# Altium schematic symbol library WE-PD.SchLib: 360 symbols (part 4 of 7)
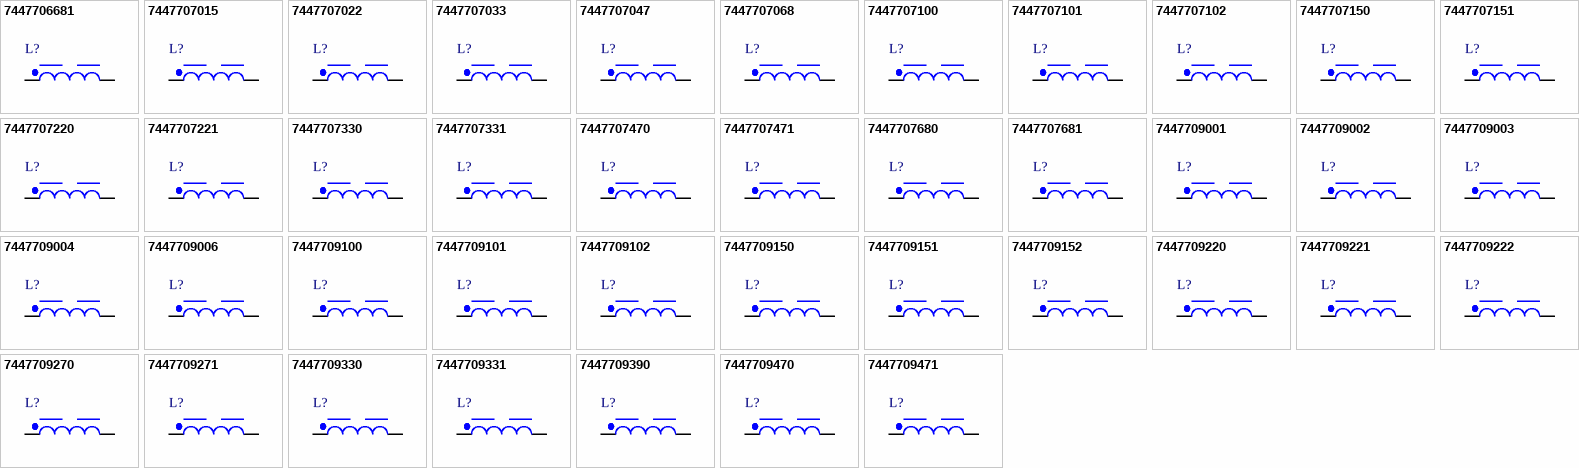
[diagram p11: symbols 7447706681 to 7447709471]

## 7447707068
designator L?, comment 6.8 μH, 6.8 A  (value not drawn)
WE-PD SMT Power Inductor, size 1280P, 6.8 μH, 6.8 A, 14 mΩ; Manufacturer Part Number: 7447707068; Manufacturer: Wurth Elektronik; DC Resistance: 11.8 mΩ; DC Resistance Max: 14 mΩ; Inductance: 6.8 μH; Rated Current: 6.8 A; Saturation Current: 13 A; Self Resonant Frequency: 19.1 MHz; Type: Performance; Category: Power Inductors; Match Code: WE-PD; ComponentLink1Description: Website Link; ComponentLink1URL: https://www.we-online.com/redexpert/article/7447707068?ad; ComponentLink2Description: Datasheet Link; ComponentLink2URL: https://www.we-online.com/redexpert/spec/7447707068?ad; Mount: Surface Mount; Min Operating Temperature: -40 °C; Max Operating Temperature: 150 °C; Packaging: Tape and Reel; Case/Size Code: 1280P; Length: 12 mm; Width: 12 mm; Height: 8 mm
footprint WE-PD_1280P
simulation model 1280_7447707068_6.8u
pins: 1, 2

## 7447707100
designator L?, comment 10 μH, 5.6 A  (value not drawn)
WE-PD SMT Power Inductor, size 1280P, 10 μH, 5.6 A, 21 mΩ; Manufacturer Part Number: 7447707100; Manufacturer: Wurth Elektronik; DC Resistance: 18 mΩ; DC Resistance Max: 21 mΩ; Inductance: 10 μH; Rated Current: 5.6 A; Saturation Current: 11 A; Self Resonant Frequency: 15.1 MHz; Type: Performance; Category: Power Inductors; Match Code: WE-PD; ComponentLink1Description: Website Link; ComponentLink1URL: https://www.we-online.com/redexpert/article/7447707100?ad; ComponentLink2Description: Datasheet Link; ComponentLink2URL: https://www.we-online.com/redexpert/spec/7447707100?ad; Mount: Surface Mount; Min Operating Temperature: -40 °C; Max Operating Temperature: 150 °C; Packaging: Tape and Reel; Case/Size Code: 1280P; Length: 12 mm; Width: 12 mm; Height: 8 mm
footprint WE-PD_1280P
simulation model 1280_7447707100_10u
pins: 1, 2

## 7447707101
designator L?, comment 100 μH, 2.1 A  (value not drawn)
WE-PD SMT Power Inductor, size 1280P, 100 μH, 2.1 A, 120 mΩ; Manufacturer Part Number: 7447707101; Manufacturer: Wurth Elektronik; DC Resistance: 105 mΩ; DC Resistance Max: 120 mΩ; Inductance: 100 μH; Rated Current: 2.1 A; Saturation Current: 3.5 A; Self Resonant Frequency: 4.3 MHz; Type: Performance; Category: Power Inductors; Match Code: WE-PD; ComponentLink1Description: Website Link; ComponentLink1URL: https://www.we-online.com/redexpert/article/7447707101?ad; ComponentLink2Description: Datasheet Link; ComponentLink2URL: https://www.we-online.com/redexpert/spec/7447707101?ad; Mount: Surface Mount; Min Operating Temperature: -40 °C; Max Operating Temperature: 150 °C; Packaging: Tape and Reel; Case/Size Code: 1280P; Length: 12 mm; Width: 12 mm; Height: 8 mm
footprint WE-PD_1280P
simulation model 1280_7447707101_100u
pins: 1, 2

## 7447707102
designator L?, comment 1000 μH, 0.66 A  (value not drawn)
WE-PD SMT Power Inductor, size 1280P, 1000 μH, 0.66 A, 1090 mΩ; Manufacturer Part Number: 7447707102; Manufacturer: Wurth Elektronik; DC Resistance: 985 mΩ; DC Resistance Max: 1090 mΩ; Inductance: 1000 μH; Rated Current: 0.66 A; Saturation Current: 1.1 A; Self Resonant Frequency: 1.2 MHz; Type: Performance; Category: Power Inductors; Match Code: WE-PD; ComponentLink1Description: Website Link; ComponentLink1URL: https://www.we-online.com/redexpert/article/7447707102?ad; ComponentLink2Description: Datasheet Link; ComponentLink2URL: https://www.we-online.com/redexpert/spec/7447707102?ad; Mount: Surface Mount; Min Operating Temperature: -40 °C; Max Operating Temperature: 150 °C; Packaging: Tape and Reel; Case/Size Code: 1280P; Length: 12 mm; Width: 12 mm; Height: 8 mm
footprint WE-PD_1280P
simulation model 1280_7447707102_1000u
pins: 1, 2

## 7447707150
designator L?, comment 15 μH, 4.7 A  (value not drawn)
WE-PD SMT Power Inductor, size 1280P, 15 μH, 4.7 A, 26.5 mΩ; Manufacturer Part Number: 7447707150; Manufacturer: Wurth Elektronik; DC Resistance: 23 mΩ; DC Resistance Max: 26.5 mΩ; Inductance: 15 μH; Rated Current: 4.7 A; Saturation Current: 9 A; Self Resonant Frequency: 13.2 MHz; Type: Performance; Category: Power Inductors; Match Code: WE-PD; ComponentLink1Description: Website Link; ComponentLink1URL: https://www.we-online.com/redexpert/article/7447707150?ad; ComponentLink2Description: Datasheet Link; ComponentLink2URL: https://www.we-online.com/redexpert/spec/7447707150?ad; Mount: Surface Mount; Min Operating Temperature: -40 °C; Max Operating Temperature: 150 °C; Packaging: Tape and Reel; Case/Size Code: 1280P; Length: 12 mm; Width: 12 mm; Height: 8 mm
footprint WE-PD_1280P
simulation model 1280_7447707150_15u
pins: 1, 2

## 7447707151
designator L?, comment 150 μH, 1.65 A  (value not drawn)
WE-PD SMT Power Inductor, size 1280P, 150 μH, 1.65 A, 190 mΩ; Manufacturer Part Number: 7447707151; Manufacturer: Wurth Elektronik; DC Resistance: 165 mΩ; DC Resistance Max: 190 mΩ; Inductance: 150 μH; Rated Current: 1.65 A; Saturation Current: 2.8 A; Self Resonant Frequency: 3.5 MHz; Type: Performance; Category: Power Inductors; Match Code: WE-PD; ComponentLink1Description: Website Link; ComponentLink1URL: https://www.we-online.com/redexpert/article/7447707151?ad; ComponentLink2Description: Datasheet Link; ComponentLink2URL: https://www.we-online.com/redexpert/spec/7447707151?ad; Mount: Surface Mount; Min Operating Temperature: -40 °C; Max Operating Temperature: 150 °C; Packaging: Tape and Reel; Case/Size Code: 1280P; Length: 12 mm; Width: 12 mm; Height: 8 mm
footprint WE-PD_1280P
simulation model 1280_7447707151_150u
pins: 1, 2

## 7447707220
designator L?, comment 22 μH, 4 A  (value not drawn)
WE-PD SMT Power Inductor, size 1280P, 22 μH, 4 A, 36 mΩ; Manufacturer Part Number: 7447707220; Manufacturer: Wurth Elektronik; DC Resistance: 31.5 mΩ; DC Resistance Max: 36 mΩ; Inductance: 22 μH; Rated Current: 4 A; Saturation Current: 7.4 A; Self Resonant Frequency: 10.2 MHz; Type: Performance; Category: Power Inductors; Match Code: WE-PD; ComponentLink1Description: Website Link; ComponentLink1URL: https://www.we-online.com/redexpert/article/7447707220?ad; ComponentLink2Description: Datasheet Link; ComponentLink2URL: https://www.we-online.com/redexpert/spec/7447707220?ad; Mount: Surface Mount; Min Operating Temperature: -40 °C; Max Operating Temperature: 150 °C; Packaging: Tape and Reel; Case/Size Code: 1280P; Length: 12 mm; Width: 12 mm; Height: 8 mm
footprint WE-PD_1280P
simulation model 1280_7447707220_22u
pins: 1, 2

## 7447707221
designator L?, comment 220 μH, 1.35 A  (value not drawn)
WE-PD SMT Power Inductor, size 1280P, 220 μH, 1.35 A, 265 mΩ; Manufacturer Part Number: 7447707221; Manufacturer: Wurth Elektronik; DC Resistance: 240 mΩ; DC Resistance Max: 265 mΩ; Inductance: 220 μH; Rated Current: 1.35 A; Saturation Current: 2.35 A; Self Resonant Frequency: 2.9 MHz; Type: Performance; Category: Power Inductors; Match Code: WE-PD; ComponentLink1Description: Website Link; ComponentLink1URL: https://www.we-online.com/redexpert/article/7447707221?ad; ComponentLink2Description: Datasheet Link; ComponentLink2URL: https://www.we-online.com/redexpert/spec/7447707221?ad; Mount: Surface Mount; Min Operating Temperature: -40 °C; Max Operating Temperature: 150 °C; Packaging: Tape and Reel; Case/Size Code: 1280P; Length: 12 mm; Width: 12 mm; Height: 8 mm
footprint WE-PD_1280P
simulation model 1280_7447707221_220u
pins: 1, 2

## 7447707330
designator L?, comment 33 μH, 3.15 A  (value not drawn)
WE-PD SMT Power Inductor, size 1280P, 33 μH, 3.15 A, 53 mΩ; Manufacturer Part Number: 7447707330; Manufacturer: Wurth Elektronik; DC Resistance: 46.5 mΩ; DC Resistance Max: 53 mΩ; Inductance: 33 μH; Rated Current: 3.15 A; Saturation Current: 6.1 A; Self Resonant Frequency: 8.3 MHz; Type: Performance; Category: Power Inductors; Match Code: WE-PD; ComponentLink1Description: Website Link; ComponentLink1URL: https://www.we-online.com/redexpert/article/7447707330?ad; ComponentLink2Description: Datasheet Link; ComponentLink2URL: https://www.we-online.com/redexpert/spec/7447707330?ad; Mount: Surface Mount; Min Operating Temperature: -40 °C; Max Operating Temperature: 150 °C; Packaging: Tape and Reel; Case/Size Code: 1280P; Length: 12 mm; Width: 12 mm; Height: 8 mm
footprint WE-PD_1280P
simulation model 1280_7447707330_33u
pins: 1, 2

## 7447707331
designator L?, comment 330 μH, 1.08 A  (value not drawn)
WE-PD SMT Power Inductor, size 1280P, 330 μH, 1.08 A, 410 mΩ; Manufacturer Part Number: 7447707331; Manufacturer: Wurth Elektronik; DC Resistance: 370 mΩ; DC Resistance Max: 410 mΩ; Inductance: 330 μH; Rated Current: 1.08 A; Saturation Current: 1.9 A; Self Resonant Frequency: 2.1 MHz; Type: Performance; Category: Power Inductors; Match Code: WE-PD; ComponentLink1Description: Website Link; ComponentLink1URL: https://www.we-online.com/redexpert/article/7447707331?ad; ComponentLink2Description: Datasheet Link; ComponentLink2URL: https://www.we-online.com/redexpert/spec/7447707331?ad; Mount: Surface Mount; Min Operating Temperature: -40 °C; Max Operating Temperature: 150 °C; Packaging: Tape and Reel; Case/Size Code: 1280P; Length: 12 mm; Width: 12 mm; Height: 8 mm
footprint WE-PD_1280P
simulation model 1280_7447707331_330u
pins: 1, 2

## 7447707470
designator L?, comment 47 μH, 2.9 A  (value not drawn)
WE-PD SMT Power Inductor, size 1280P, 47 μH, 2.9 A, 63 mΩ; Manufacturer Part Number: 7447707470; Manufacturer: Wurth Elektronik; DC Resistance: 55 mΩ; DC Resistance Max: 63 mΩ; Inductance: 47 μH; Rated Current: 2.9 A; Saturation Current: 5.1 A; Self Resonant Frequency: 7.2 MHz; Type: Performance; Category: Power Inductors; Match Code: WE-PD; ComponentLink1Description: Website Link; ComponentLink1URL: https://www.we-online.com/redexpert/article/7447707470?ad; ComponentLink2Description: Datasheet Link; ComponentLink2URL: https://www.we-online.com/redexpert/spec/7447707470?ad; Mount: Surface Mount; Min Operating Temperature: -40 °C; Max Operating Temperature: 150 °C; Packaging: Tape and Reel; Case/Size Code: 1280P; Length: 12 mm; Width: 12 mm; Height: 8 mm
footprint WE-PD_1280P
simulation model 1280_7447707470_47u
pins: 1, 2

## 7447707471
designator L?, comment 470 μH, 0.93 A  (value not drawn)
WE-PD SMT Power Inductor, size 1280P, 470 μH, 0.93 A, 540 mΩ; Manufacturer Part Number: 7447707471; Manufacturer: Wurth Elektronik; DC Resistance: 490 mΩ; DC Resistance Max: 540 mΩ; Inductance: 470 μH; Rated Current: 0.93 A; Saturation Current: 1.6 A; Self Resonant Frequency: 1.9 MHz; Type: Performance; Category: Power Inductors; Match Code: WE-PD; ComponentLink1Description: Website Link; ComponentLink1URL: https://www.we-online.com/redexpert/article/7447707471?ad; ComponentLink2Description: Datasheet Link; ComponentLink2URL: https://www.we-online.com/redexpert/spec/7447707471?ad; Mount: Surface Mount; Min Operating Temperature: -40 °C; Max Operating Temperature: 150 °C; Packaging: Tape and Reel; Case/Size Code: 1280P; Length: 12 mm; Width: 12 mm; Height: 8 mm
footprint WE-PD_1280P
simulation model 1280_7447707471_470u
pins: 1, 2

## 7447707680
designator L?, comment 68 μH, 2.45 A  (value not drawn)
WE-PD SMT Power Inductor, size 1280P, 68 μH, 2.45 A, 90 mΩ; Manufacturer Part Number: 7447707680; Manufacturer: Wurth Elektronik; DC Resistance: 78 mΩ; DC Resistance Max: 90 mΩ; Inductance: 68 μH; Rated Current: 2.45 A; Saturation Current: 4.2 A; Self Resonant Frequency: 5.5 MHz; Type: Performance; Category: Power Inductors; Match Code: WE-PD; ComponentLink1Description: Website Link; ComponentLink1URL: https://www.we-online.com/redexpert/article/7447707680?ad; ComponentLink2Description: Datasheet Link; ComponentLink2URL: https://www.we-online.com/redexpert/spec/7447707680?ad; Mount: Surface Mount; Min Operating Temperature: -40 °C; Max Operating Temperature: 150 °C; Packaging: Tape and Reel; Case/Size Code: 1280P; Length: 12 mm; Width: 12 mm; Height: 8 mm
footprint WE-PD_1280P
simulation model 1280_7447707680_68u
pins: 1, 2

## 7447707681
designator L?, comment 680 μH, 0.78 A  (value not drawn)
WE-PD SMT Power Inductor, size 1280P, 680 μH, 0.78 A, 770 mΩ; Manufacturer Part Number: 7447707681; Manufacturer: Wurth Elektronik; DC Resistance: 700 mΩ; DC Resistance Max: 770 mΩ; Inductance: 680 μH; Rated Current: 0.78 A; Saturation Current: 1.3 A; Self Resonant Frequency: 1.5 MHz; Type: Performance; Category: Power Inductors; Match Code: WE-PD; ComponentLink1Description: Website Link; ComponentLink1URL: https://www.we-online.com/redexpert/article/7447707681?ad; ComponentLink2Description: Datasheet Link; ComponentLink2URL: https://www.we-online.com/redexpert/spec/7447707681?ad; Mount: Surface Mount; Min Operating Temperature: -40 °C; Max Operating Temperature: 150 °C; Packaging: Tape and Reel; Case/Size Code: 1280P; Length: 12 mm; Width: 12 mm; Height: 8 mm
footprint WE-PD_1280P
simulation model 1280_7447707681_680u
pins: 1, 2

## 7447709001
designator L?, comment 1 μH, 13 A  (value not drawn)
WE-PD SMT Power Inductor, size 1210, 1 μH, 13 A, 6 mΩ; Manufacturer Part Number: 7447709001; Manufacturer: Wurth Elektronik; Case/Size Code: 1210; DC Resistance: 4 mΩ; DC Resistance Max: 6 mΩ; Inductance: 1 μH; Rated Current: 13 A; Saturation Current: 25 A; Self Resonant Frequency: 120 MHz; Type: Standard; Category: Power Inductors; Match Code: WE-PD; ComponentLink1Description: Website Link; ComponentLink1URL: https://www.we-online.com/redexpert/article/7447709001?ad; ComponentLink2Description: Datasheet Link; ComponentLink2URL: https://www.we-online.com/redexpert/spec/7447709001?ad; Mount: Surface Mount; Min Operating Temperature: -40 °C; Max Operating Temperature: 125 °C; Packaging: Tape and Reel; Length: 12 mm; Width: 12 mm; Height: 10 mm
footprint WE-PD_1210
simulation model 1210_7447709001_1u
pins: 1, 2

## 7447709002
designator L?, comment 2.2 μH, 11.5 A  (value not drawn)
WE-PD SMT Power Inductor, size 1210, 2.2 μH, 11.5 A, 6 mΩ; Manufacturer Part Number: 7447709002; Manufacturer: Wurth Elektronik; Case/Size Code: 1210; DC Resistance: 5 mΩ; DC Resistance Max: 6 mΩ; Inductance: 2.2 μH; Rated Current: 11.5 A; Saturation Current: 20 A; Self Resonant Frequency: 65 MHz; Type: Standard; Category: Power Inductors; Match Code: WE-PD; ComponentLink1Description: Website Link; ComponentLink1URL: https://www.we-online.com/redexpert/article/7447709002?ad; ComponentLink2Description: Datasheet Link; ComponentLink2URL: https://www.we-online.com/redexpert/spec/7447709002?ad; Mount: Surface Mount; Min Operating Temperature: -40 °C; Max Operating Temperature: 125 °C; Packaging: Tape and Reel; Length: 12 mm; Width: 12 mm; Height: 10 mm
footprint WE-PD_1210
simulation model 1210_7447709002_2.2u
pins: 1, 2

## 7447709003
designator L?, comment 3.5 μH, 11 A  (value not drawn)
WE-PD SMT Power Inductor, size 1210, 3.5 μH, 11 A, 9 mΩ; Manufacturer Part Number: 7447709003; Manufacturer: Wurth Elektronik; Case/Size Code: 1210; DC Resistance: 6 mΩ; DC Resistance Max: 9 mΩ; Inductance: 3.5 μH; Rated Current: 11 A; Saturation Current: 16.5 A; Self Resonant Frequency: 45 MHz; Type: Standard; Category: Power Inductors; Match Code: WE-PD; ComponentLink1Description: Website Link; ComponentLink1URL: https://www.we-online.com/redexpert/article/7447709003?ad; ComponentLink2Description: Datasheet Link; ComponentLink2URL: https://www.we-online.com/redexpert/spec/7447709003?ad; Mount: Surface Mount; Min Operating Temperature: -40 °C; Max Operating Temperature: 125 °C; Packaging: Tape and Reel; Length: 12 mm; Width: 12 mm; Height: 10 mm
footprint WE-PD_1210
simulation model 1210_7447709003_3.5u
pins: 1, 2

## 7447709004
designator L?, comment 4.7 μH, 9.3 A  (value not drawn)
WE-PD SMT Power Inductor, size 1210, 4.7 μH, 9.3 A, 11 mΩ; Manufacturer Part Number: 7447709004; Manufacturer: Wurth Elektronik; Case/Size Code: 1210; DC Resistance: 7 mΩ; DC Resistance Max: 11 mΩ; Inductance: 4.7 μH; Rated Current: 9.3 A; Saturation Current: 13 A; Self Resonant Frequency: 38 MHz; Type: Standard; Category: Power Inductors; Match Code: WE-PD; ComponentLink1Description: Website Link; ComponentLink1URL: https://www.we-online.com/redexpert/article/7447709004?ad; ComponentLink2Description: Datasheet Link; ComponentLink2URL: https://www.we-online.com/redexpert/spec/7447709004?ad; Mount: Surface Mount; Min Operating Temperature: -40 °C; Max Operating Temperature: 125 °C; Packaging: Tape and Reel; Length: 12 mm; Width: 12 mm; Height: 10 mm
footprint WE-PD_1210
simulation model 1210_7447709004_4.7u
pins: 1, 2

## 7447709006
designator L?, comment 6.8 μH, 8.4 A  (value not drawn)
WE-PD SMT Power Inductor, size 1210, 6.8 μH, 8.4 A, 14 mΩ; Manufacturer Part Number: 7447709006; Manufacturer: Wurth Elektronik; Case/Size Code: 1210; DC Resistance: 9 mΩ; DC Resistance Max: 14 mΩ; Inductance: 6.8 μH; Rated Current: 8.4 A; Saturation Current: 12.8 A; Self Resonant Frequency: 23 MHz; Type: Standard; Category: Power Inductors; Match Code: WE-PD; ComponentLink1Description: Website Link; ComponentLink1URL: https://www.we-online.com/redexpert/article/7447709006?ad; ComponentLink2Description: Datasheet Link; ComponentLink2URL: https://www.we-online.com/redexpert/spec/7447709006?ad; Mount: Surface Mount; Min Operating Temperature: -40 °C; Max Operating Temperature: 125 °C; Packaging: Tape and Reel; Length: 12 mm; Width: 12 mm; Height: 10 mm
footprint WE-PD_1210
simulation model 1210_7447709006_6.8u
pins: 1, 2

## 7447709100
designator L?, comment 10 μH, 7.1 A  (value not drawn)
WE-PD SMT Power Inductor, size 1210, 10 μH, 7.1 A, 21 mΩ; Manufacturer Part Number: 7447709100; Manufacturer: Wurth Elektronik; Case/Size Code: 1210; DC Resistance: 13 mΩ; DC Resistance Max: 21 mΩ; Inductance: 10 μH; Rated Current: 7.1 A; Saturation Current: 10.5 A; Self Resonant Frequency: 21 MHz; Type: Standard; Category: Power Inductors; Match Code: WE-PD; ComponentLink1Description: Website Link; ComponentLink1URL: https://www.we-online.com/redexpert/article/7447709100?ad; ComponentLink2Description: Datasheet Link; ComponentLink2URL: https://www.we-online.com/redexpert/spec/7447709100?ad; Mount: Surface Mount; Min Operating Temperature: -40 °C; Max Operating Temperature: 125 °C; Packaging: Tape and Reel; Length: 12 mm; Width: 12 mm; Height: 10 mm
footprint WE-PD_1210
simulation model 1210_7447709100_10u
pins: 1, 2

## 7447709101
designator L?, comment 100 μH, 2.5 A  (value not drawn)
WE-PD SMT Power Inductor, size 1210, 100 μH, 2.5 A, 110 mΩ; Manufacturer Part Number: 7447709101; Manufacturer: Wurth Elektronik; Case/Size Code: 1210; DC Resistance: 100 mΩ; DC Resistance Max: 110 mΩ; Inductance: 100 μH; Rated Current: 2.5 A; Saturation Current: 3.1 A; Self Resonant Frequency: 4.3 MHz; Type: Standard; Category: Power Inductors; Match Code: WE-PD; ComponentLink1Description: Website Link; ComponentLink1URL: https://www.we-online.com/redexpert/article/7447709101?ad; ComponentLink2Description: Datasheet Link; ComponentLink2URL: https://www.we-online.com/redexpert/spec/7447709101?ad; Mount: Surface Mount; Min Operating Temperature: -40 °C; Max Operating Temperature: 125 °C; Packaging: Tape and Reel; Length: 12 mm; Width: 12 mm; Height: 10 mm
footprint WE-PD_1210
simulation model 1210_7447709101_100u
pins: 1, 2

## 7447709102
designator L?, comment 1000 μH, 0.9 A  (value not drawn)
WE-PD SMT Power Inductor, size 1210, 1000 μH, 0.9 A, 1200 mΩ; Manufacturer Part Number: 7447709102; Manufacturer: Wurth Elektronik; Case/Size Code: 1210; DC Resistance: 930 mΩ; DC Resistance Max: 1200 mΩ; Inductance: 1000 μH; Rated Current: 0.9 A; Saturation Current: 1 A; Self Resonant Frequency: 1 MHz; Type: Standard; Category: Power Inductors; Match Code: WE-PD; ComponentLink1Description: Website Link; ComponentLink1URL: https://www.we-online.com/redexpert/article/7447709102?ad; ComponentLink2Description: Datasheet Link; ComponentLink2URL: https://www.we-online.com/redexpert/spec/7447709102?ad; Mount: Surface Mount; Min Operating Temperature: -40 °C; Max Operating Temperature: 125 °C; Packaging: Tape and Reel; Length: 12 mm; Width: 12 mm; Height: 10 mm
footprint WE-PD_1210
simulation model 1210_7447709102_1000u
pins: 1, 2

## 7447709150
designator L?, comment 15 μH, 6.5 A  (value not drawn)
WE-PD SMT Power Inductor, size 1210, 15 μH, 6.5 A, 26 mΩ; Manufacturer Part Number: 7447709150; Manufacturer: Wurth Elektronik; Case/Size Code: 1210; DC Resistance: 21 mΩ; DC Resistance Max: 26 mΩ; Inductance: 15 μH; Rated Current: 6.5 A; Saturation Current: 8 A; Self Resonant Frequency: 17 MHz; Type: Standard; Category: Power Inductors; Match Code: WE-PD; ComponentLink1Description: Website Link; ComponentLink1URL: https://www.we-online.com/redexpert/article/7447709150?ad; ComponentLink2Description: Datasheet Link; ComponentLink2URL: https://www.we-online.com/redexpert/spec/7447709150?ad; Mount: Surface Mount; Min Operating Temperature: -40 °C; Max Operating Temperature: 125 °C; Packaging: Tape and Reel; Length: 12 mm; Width: 12 mm; Height: 10 mm
footprint WE-PD_1210
simulation model 1210_7447709150_15u
pins: 1, 2

## 7447709151
designator L?, comment 150 μH, 2.1 A  (value not drawn)
WE-PD SMT Power Inductor, size 1210, 150 μH, 2.1 A, 200 mΩ; Manufacturer Part Number: 7447709151; Manufacturer: Wurth Elektronik; Case/Size Code: 1210; DC Resistance: 151 mΩ; DC Resistance Max: 200 mΩ; Inductance: 150 μH; Rated Current: 2.1 A; Saturation Current: 2.7 A; Self Resonant Frequency: 3.5 MHz; Type: Standard; Category: Power Inductors; Match Code: WE-PD; ComponentLink1Description: Website Link; ComponentLink1URL: https://www.we-online.com/redexpert/article/7447709151?ad; ComponentLink2Description: Datasheet Link; ComponentLink2URL: https://www.we-online.com/redexpert/spec/7447709151?ad; Mount: Surface Mount; Min Operating Temperature: -40 °C; Max Operating Temperature: 125 °C; Packaging: Tape and Reel; Length: 12 mm; Width: 12 mm; Height: 10 mm
footprint WE-PD_1210
simulation model 1210_7447709151_150u
pins: 1, 2

## 7447709152
designator L?, comment 1500 μH, 0.8 A  (value not drawn)
WE-PD SMT Power Inductor, size 1210, 1500 μH, 0.8 A, 2300 mΩ; Manufacturer Part Number: 7447709152; Manufacturer: Wurth Elektronik; Case/Size Code: 1210; DC Resistance: 1800 mΩ; DC Resistance Max: 2300 mΩ; Inductance: 1500 μH; Rated Current: 0.8 A; Self Resonant Frequency: 0.9 MHz; Type: Standard; Category: Power Inductors; Match Code: WE-PD; ComponentLink1Description: Website Link; ComponentLink1URL: https://www.we-online.com/redexpert/article/7447709152?ad; ComponentLink2Description: Datasheet Link; ComponentLink2URL: https://www.we-online.com/redexpert/spec/7447709152?ad; Mount: Surface Mount; Min Operating Temperature: -40 °C; Max Operating Temperature: 125 °C; Packaging: Tape and Reel; Length: 12 mm; Width: 12 mm; Height: 10 mm; Saturation Current: 0.8 A
footprint WE-PD_1210
simulation model 1210_7447709152_1500u
pins: 1, 2

## 7447709220
designator L?, comment 22 μH, 5.3 A  (value not drawn)
WE-PD SMT Power Inductor, size 1210, 22 μH, 5.3 A, 28 mΩ; Manufacturer Part Number: 7447709220; Manufacturer: Wurth Elektronik; Case/Size Code: 1210; DC Resistance: 23 mΩ; DC Resistance Max: 28 mΩ; Inductance: 22 μH; Rated Current: 5.3 A; Saturation Current: 6.5 A; Self Resonant Frequency: 10 MHz; Type: Standard; Category: Power Inductors; Match Code: WE-PD; ComponentLink1Description: Website Link; ComponentLink1URL: https://www.we-online.com/redexpert/article/7447709220?ad; ComponentLink2Description: Datasheet Link; ComponentLink2URL: https://www.we-online.com/redexpert/spec/7447709220?ad; Mount: Surface Mount; Min Operating Temperature: -40 °C; Max Operating Temperature: 125 °C; Packaging: Tape and Reel; Length: 12 mm; Width: 12 mm; Height: 10 mm
footprint WE-PD_1210
simulation model 1210_7447709220_22u
pins: 1, 2

## 7447709221
designator L?, comment 220 μH, 1.8 A  (value not drawn)
WE-PD SMT Power Inductor, size 1210, 220 μH, 1.8 A, 300 mΩ; Manufacturer Part Number: 7447709221; Manufacturer: Wurth Elektronik; Case/Size Code: 1210; DC Resistance: 193 mΩ; DC Resistance Max: 300 mΩ; Inductance: 220 μH; Rated Current: 1.8 A; Saturation Current: 2.2 A; Self Resonant Frequency: 2.7 MHz; Type: Standard; Category: Power Inductors; Match Code: WE-PD; ComponentLink1Description: Website Link; ComponentLink1URL: https://www.we-online.com/redexpert/article/7447709221?ad; ComponentLink2Description: Datasheet Link; ComponentLink2URL: https://www.we-online.com/redexpert/spec/7447709221?ad; Mount: Surface Mount; Min Operating Temperature: -40 °C; Max Operating Temperature: 125 °C; Packaging: Tape and Reel; Length: 12 mm; Width: 12 mm; Height: 10 mm
footprint WE-PD_1210
simulation model 1210_7447709221_220u
pins: 1, 2

## 7447709222
designator L?, comment 2200 μH, 0.53 A  (value not drawn)
WE-PD SMT Power Inductor, size 1210, 2200 μH, 0.53 A, 3750 mΩ; Manufacturer Part Number: 7447709222; Manufacturer: Wurth Elektronik; Case/Size Code: 1210; DC Resistance: 3250 mΩ; DC Resistance Max: 3750 mΩ; Inductance: 2200 μH; Rated Current: 0.53 A; Saturation Current: 0.75 A; Self Resonant Frequency: 0.66 MHz; Type: Standard; Category: Power Inductors; Match Code: WE-PD; ComponentLink1Description: Website Link; ComponentLink1URL: https://www.we-online.com/redexpert/article/7447709222?ad; ComponentLink2Description: Datasheet Link; ComponentLink2URL: https://www.we-online.com/redexpert/spec/7447709222?ad; Mount: Surface Mount; Min Operating Temperature: -40 °C; Max Operating Temperature: 125 °C; Packaging: Tape and Reel; Length: 12 mm; Width: 12 mm; Height: 10 mm
footprint WE-PD_1210
simulation model 1210_7447709222_2200u
pins: 1, 2

## 7447709270
designator L?, comment 27 μH, 4.6 A  (value not drawn)
WE-PD SMT Power Inductor, size 1210, 27 μH, 4.6 A, 40 mΩ; Manufacturer Part Number: 7447709270; Manufacturer: Wurth Elektronik; Case/Size Code: 1210; DC Resistance: 30 mΩ; DC Resistance Max: 40 mΩ; Inductance: 27 μH; Rated Current: 4.6 A; Saturation Current: 5.8 A; Self Resonant Frequency: 8 MHz; Type: Standard; Category: Power Inductors; Match Code: WE-PD; ComponentLink1Description: Website Link; ComponentLink1URL: https://www.we-online.com/redexpert/article/7447709270?ad; ComponentLink2Description: Datasheet Link; ComponentLink2URL: https://www.we-online.com/redexpert/spec/7447709270?ad; Mount: Surface Mount; Min Operating Temperature: -40 °C; Max Operating Temperature: 125 °C; Packaging: Tape and Reel; Length: 12 mm; Width: 12 mm; Height: 10 mm
footprint WE-PD_1210
simulation model 1210_7447709270_27u
pins: 1, 2

## 7447709271
designator L?, comment 270 μH, 1.6 A  (value not drawn)
WE-PD SMT Power Inductor, size 1210, 270 μH, 1.6 A, 330 mΩ; Manufacturer Part Number: 7447709271; Manufacturer: Wurth Elektronik; Case/Size Code: 1210; DC Resistance: 248 mΩ; DC Resistance Max: 330 mΩ; Inductance: 270 μH; Rated Current: 1.6 A; Saturation Current: 2.1 A; Self Resonant Frequency: 2.5 MHz; Type: Standard; Category: Power Inductors; Match Code: WE-PD; ComponentLink1Description: Website Link; ComponentLink1URL: https://www.we-online.com/redexpert/article/7447709271?ad; ComponentLink2Description: Datasheet Link; ComponentLink2URL: https://www.we-online.com/redexpert/spec/7447709271?ad; Mount: Surface Mount; Min Operating Temperature: -40 °C; Max Operating Temperature: 125 °C; Packaging: Tape and Reel; Length: 12 mm; Width: 12 mm; Height: 10 mm
footprint WE-PD_1210
simulation model 1210_7447709271_270u
pins: 1, 2

## 7447709330
designator L?, comment 33 μH, 4.2 A  (value not drawn)
WE-PD SMT Power Inductor, size 1210, 33 μH, 4.2 A, 45 mΩ; Manufacturer Part Number: 7447709330; Manufacturer: Wurth Elektronik; Case/Size Code: 1210; DC Resistance: 37 mΩ; DC Resistance Max: 45 mΩ; Inductance: 33 μH; Rated Current: 4.2 A; Saturation Current: 5.5 A; Self Resonant Frequency: 8.5 MHz; Type: Standard; Category: Power Inductors; Match Code: WE-PD; ComponentLink1Description: Website Link; ComponentLink1URL: https://www.we-online.com/redexpert/article/7447709330?ad; ComponentLink2Description: Datasheet Link; ComponentLink2URL: https://www.we-online.com/redexpert/spec/7447709330?ad; Mount: Surface Mount; Min Operating Temperature: -40 °C; Max Operating Temperature: 125 °C; Packaging: Tape and Reel; Length: 12 mm; Width: 12 mm; Height: 10 mm
footprint WE-PD_1210
simulation model 1210_7447709330_33u
pins: 1, 2

## 7447709331
designator L?, comment 330 μH, 1.5 A  (value not drawn)
WE-PD SMT Power Inductor, size 1210, 330 μH, 1.5 A, 430 mΩ; Manufacturer Part Number: 7447709331; Manufacturer: Wurth Elektronik; Case/Size Code: 1210; DC Resistance: 363 mΩ; DC Resistance Max: 430 mΩ; Inductance: 330 μH; Rated Current: 1.5 A; Saturation Current: 1.7 A; Self Resonant Frequency: 2 MHz; Type: Standard; Category: Power Inductors; Match Code: WE-PD; ComponentLink1Description: Website Link; ComponentLink1URL: https://www.we-online.com/redexpert/article/7447709331?ad; ComponentLink2Description: Datasheet Link; ComponentLink2URL: https://www.we-online.com/redexpert/spec/7447709331?ad; Mount: Surface Mount; Min Operating Temperature: -40 °C; Max Operating Temperature: 125 °C; Packaging: Tape and Reel; Length: 12 mm; Width: 12 mm; Height: 10 mm
footprint WE-PD_1210
simulation model 1210_7447709331_330u
pins: 1, 2

## 7447709390
designator L?, comment 39 μH, 4.1 A  (value not drawn)
WE-PD SMT Power Inductor, size 1210, 39 μH, 4.1 A, 56 mΩ; Manufacturer Part Number: 7447709390; Manufacturer: Wurth Elektronik; Case/Size Code: 1210; DC Resistance: 44 mΩ; DC Resistance Max: 56 mΩ; Inductance: 39 μH; Rated Current: 4.1 A; Saturation Current: 5 A; Self Resonant Frequency: 6 MHz; Type: Standard; Category: Power Inductors; Match Code: WE-PD; ComponentLink1Description: Website Link; ComponentLink1URL: https://www.we-online.com/redexpert/article/7447709390?ad; ComponentLink2Description: Datasheet Link; ComponentLink2URL: https://www.we-online.com/redexpert/spec/7447709390?ad; Mount: Surface Mount; Min Operating Temperature: -40 °C; Max Operating Temperature: 125 °C; Packaging: Tape and Reel; Length: 12 mm; Width: 12 mm; Height: 10 mm
footprint WE-PD_1210
simulation model 1210_7447709390_39u
pins: 1, 2

## 7447709470
designator L?, comment 47 μH, 3.8 A  (value not drawn)
WE-PD SMT Power Inductor, size 1210, 47 μH, 3.8 A, 60 mΩ; Manufacturer Part Number: 7447709470; Manufacturer: Wurth Elektronik; Case/Size Code: 1210; DC Resistance: 46 mΩ; DC Resistance Max: 60 mΩ; Inductance: 47 μH; Rated Current: 3.8 A; Saturation Current: 4.5 A; Self Resonant Frequency: 6.5 MHz; Type: Standard; Category: Power Inductors; Match Code: WE-PD; ComponentLink1Description: Website Link; ComponentLink1URL: https://www.we-online.com/redexpert/article/7447709470?ad; ComponentLink2Description: Datasheet Link; ComponentLink2URL: https://www.we-online.com/redexpert/spec/7447709470?ad; Mount: Surface Mount; Min Operating Temperature: -40 °C; Max Operating Temperature: 125 °C; Packaging: Tape and Reel; Length: 12 mm; Width: 12 mm; Height: 10 mm
footprint WE-PD_1210
simulation model 1210_7447709470_47u
pins: 1, 2

## 7447709471
designator L?, comment 470 μH, 1.4 A  (value not drawn)
WE-PD SMT Power Inductor, size 1210, 470 μH, 1.4 A, 560 mΩ; Manufacturer Part Number: 7447709471; Manufacturer: Wurth Elektronik; Case/Size Code: 1210; DC Resistance: 437 mΩ; DC Resistance Max: 560 mΩ; Inductance: 470 μH; Rated Current: 1.4 A; Saturation Current: 1.5 A; Self Resonant Frequency: 1.8 MHz; Type: Standard; Category: Power Inductors; Match Code: WE-PD; ComponentLink1Description: Website Link; ComponentLink1URL: https://www.we-online.com/redexpert/article/7447709471?ad; ComponentLink2Description: Datasheet Link; ComponentLink2URL: https://www.we-online.com/redexpert/spec/7447709471?ad; Mount: Surface Mount; Min Operating Temperature: -40 °C; Max Operating Temperature: 125 °C; Packaging: Tape and Reel; Length: 12 mm; Width: 12 mm; Height: 10 mm
footprint WE-PD_1210
simulation model 1210_7447709471_470u
pins: 1, 2

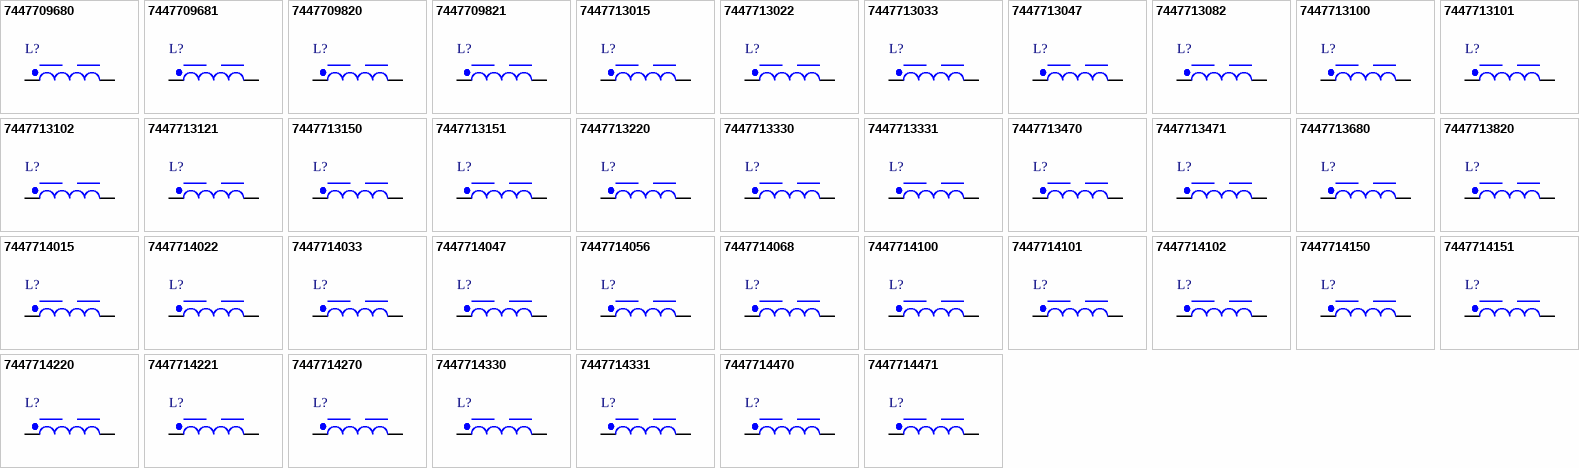
[diagram p5: symbols 7447709680 to 7447714471]

## 7447709680
designator L?, comment 68 μH, 3.2 A  (value not drawn)
WE-PD SMT Power Inductor, size 1210, 68 μH, 3.2 A, 89 mΩ; Manufacturer Part Number: 7447709680; Manufacturer: Wurth Elektronik; Case/Size Code: 1210; DC Resistance: 69 mΩ; DC Resistance Max: 89 mΩ; Inductance: 68 μH; Rated Current: 3.2 A; Saturation Current: 3.6 A; Self Resonant Frequency: 5.5 MHz; Type: Standard; Category: Power Inductors; Match Code: WE-PD; ComponentLink1Description: Website Link; ComponentLink1URL: https://www.we-online.com/redexpert/article/7447709680?ad; ComponentLink2Description: Datasheet Link; ComponentLink2URL: https://www.we-online.com/redexpert/spec/7447709680?ad; Mount: Surface Mount; Min Operating Temperature: -40 °C; Max Operating Temperature: 125 °C; Packaging: Tape and Reel; Length: 12 mm; Width: 12 mm; Height: 10 mm
footprint WE-PD_1210
simulation model 1210_7447709680_68u
pins: 1, 2

## 7447709681
designator L?, comment 680 μH, 1.1 A  (value not drawn)
WE-PD SMT Power Inductor, size 1210, 680 μH, 1.1 A, 825 mΩ; Manufacturer Part Number: 7447709681; Manufacturer: Wurth Elektronik; Case/Size Code: 1210; DC Resistance: 660 mΩ; DC Resistance Max: 825 mΩ; Inductance: 680 μH; Rated Current: 1.1 A; Saturation Current: 1.3 A; Self Resonant Frequency: 1.5 MHz; Type: Standard; Category: Power Inductors; Match Code: WE-PD; ComponentLink1Description: Website Link; ComponentLink1URL: https://www.we-online.com/redexpert/article/7447709681?ad; ComponentLink2Description: Datasheet Link; ComponentLink2URL: https://www.we-online.com/redexpert/spec/7447709681?ad; Mount: Surface Mount; Min Operating Temperature: -40 °C; Max Operating Temperature: 125 °C; Packaging: Tape and Reel; Length: 12 mm; Width: 12 mm; Height: 10 mm
footprint WE-PD_1210
simulation model 1210_7447709681_680u
pins: 1, 2

## 7447709820
designator L?, comment 82 μH, 2.75 A  (value not drawn)
WE-PD SMT Power Inductor, size 1210, 82 μH, 2.75 A, 105 mΩ; Manufacturer Part Number: 7447709820; Manufacturer: Wurth Elektronik; Case/Size Code: 1210; DC Resistance: 90.5 mΩ; DC Resistance Max: 105 mΩ; Inductance: 82 μH; Rated Current: 2.75 A; Saturation Current: 3.4 A; Self Resonant Frequency: 4.5 MHz; Type: Standard; Category: Power Inductors; Match Code: WE-PD; ComponentLink1Description: Website Link; ComponentLink1URL: https://www.we-online.com/redexpert/article/7447709820?ad; ComponentLink2Description: Datasheet Link; ComponentLink2URL: https://www.we-online.com/redexpert/spec/7447709820?ad; Mount: Surface Mount; Min Operating Temperature: -40 °C; Max Operating Temperature: 125 °C; Packaging: Tape and Reel; Length: 12 mm; Width: 12 mm; Height: 10 mm
footprint WE-PD_1210
simulation model 1210_7447709820_82u
pins: 1, 2

## 7447709821
designator L?, comment 820 μH, 0.95 A  (value not drawn)
WE-PD SMT Power Inductor, size 1210, 820 μH, 0.95 A, 1000 mΩ; Manufacturer Part Number: 7447709821; Manufacturer: Wurth Elektronik; Case/Size Code: 1210; DC Resistance: 815 mΩ; DC Resistance Max: 1000 mΩ; Inductance: 820 μH; Rated Current: 0.95 A; Saturation Current: 1.1 A; Self Resonant Frequency: 1.2 MHz; Type: Standard; Category: Power Inductors; Match Code: WE-PD; ComponentLink1Description: Website Link; ComponentLink1URL: https://www.we-online.com/redexpert/article/7447709821?ad; ComponentLink2Description: Datasheet Link; ComponentLink2URL: https://www.we-online.com/redexpert/spec/7447709821?ad; Mount: Surface Mount; Min Operating Temperature: -40 °C; Max Operating Temperature: 125 °C; Packaging: Tape and Reel; Length: 12 mm; Width: 12 mm; Height: 10 mm
footprint WE-PD_1210
simulation model 1210_7447709821_820u
pins: 1, 2

## 7447713015
designator L?, comment 1.5 μH, 6.2 A  (value not drawn)
WE-PD SMT Power Inductor, size 1030P, 1.5 μH, 6.2 A, 16 mΩ; Manufacturer Part Number: 7447713015; Manufacturer: Wurth Elektronik; DC Resistance: 13.7 mΩ; DC Resistance Max: 16 mΩ; Inductance: 1.5 μH; Rated Current: 6.2 A; Saturation Current: 9.5 A; Self Resonant Frequency: 75 MHz; Type: Performance; Category: Power Inductors; Match Code: WE-PD; ComponentLink1Description: Website Link; ComponentLink1URL: https://www.we-online.com/redexpert/article/7447713015?ad; ComponentLink2Description: Datasheet Link; ComponentLink2URL: https://www.we-online.com/redexpert/spec/7447713015?ad; Mount: Surface Mount; Min Operating Temperature: -40 °C; Max Operating Temperature: 150 °C; Packaging: Tape and Reel; Case/Size Code: 1030P; Length: 10 mm; Width: 10 mm; Height: 3 mm
footprint WE-PD_1030P
simulation model 1030_7447713015_1.5u
pins: 1, 2

## 7447713022
designator L?, comment 2.2 μH, 5.1 A  (value not drawn)
WE-PD SMT Power Inductor, size 1030P, 2.2 μH, 5.1 A, 20 mΩ; Manufacturer Part Number: 7447713022; Manufacturer: Wurth Elektronik; DC Resistance: 16.8 mΩ; DC Resistance Max: 20 mΩ; Inductance: 2.2 μH; Rated Current: 5.1 A; Saturation Current: 8.5 A; Self Resonant Frequency: 71 MHz; Type: Performance; Category: Power Inductors; Match Code: WE-PD; ComponentLink1Description: Website Link; ComponentLink1URL: https://www.we-online.com/redexpert/article/7447713022?ad; ComponentLink2Description: Datasheet Link; ComponentLink2URL: https://www.we-online.com/redexpert/spec/7447713022?ad; Mount: Surface Mount; Min Operating Temperature: -40 °C; Max Operating Temperature: 150 °C; Packaging: Tape and Reel; Case/Size Code: 1030P; Length: 10 mm; Width: 10 mm; Height: 3 mm
footprint WE-PD_1030P
simulation model 1030_7447713022_2.2u
pins: 1, 2

## 7447713033
designator L?, comment 3.3 μH, 4.6 A  (value not drawn)
WE-PD SMT Power Inductor, size 1030P, 3.3 μH, 4.6 A, 24 mΩ; Manufacturer Part Number: 7447713033; Manufacturer: Wurth Elektronik; DC Resistance: 20.4 mΩ; DC Resistance Max: 24 mΩ; Inductance: 3.3 μH; Rated Current: 4.6 A; Saturation Current: 7.2 A; Self Resonant Frequency: 50 MHz; Type: Performance; Category: Power Inductors; Match Code: WE-PD; ComponentLink1Description: Website Link; ComponentLink1URL: https://www.we-online.com/redexpert/article/7447713033?ad; ComponentLink2Description: Datasheet Link; ComponentLink2URL: https://www.we-online.com/redexpert/spec/7447713033?ad; Mount: Surface Mount; Min Operating Temperature: -40 °C; Max Operating Temperature: 150 °C; Packaging: Tape and Reel; Case/Size Code: 1030P; Length: 10 mm; Width: 10 mm; Height: 3 mm
footprint WE-PD_1030P
simulation model 1030_7447713033_3.3u
pins: 1, 2

## 7447713047
designator L?, comment 4.7 μH, 4 A  (value not drawn)
WE-PD SMT Power Inductor, size 1030P, 4.7 μH, 4 A, 31 mΩ; Manufacturer Part Number: 7447713047; Manufacturer: Wurth Elektronik; DC Resistance: 26 mΩ; DC Resistance Max: 31 mΩ; Inductance: 4.7 μH; Rated Current: 4 A; Saturation Current: 6 A; Self Resonant Frequency: 42 MHz; Type: Performance; Category: Power Inductors; Match Code: WE-PD; ComponentLink1Description: Website Link; ComponentLink1URL: https://www.we-online.com/redexpert/article/7447713047?ad; ComponentLink2Description: Datasheet Link; ComponentLink2URL: https://www.we-online.com/redexpert/spec/7447713047?ad; Mount: Surface Mount; Min Operating Temperature: -40 °C; Max Operating Temperature: 150 °C; Packaging: Tape and Reel; Case/Size Code: 1030P; Length: 10 mm; Width: 10 mm; Height: 3 mm
footprint WE-PD_1030P
simulation model 1030_7447713047_4.7u
pins: 1, 2

## 7447713082
designator L?, comment 8.2 μH, 3 A  (value not drawn)
WE-PD SMT Power Inductor, size 1030P, 8.2 μH, 3 A, 49 mΩ; Manufacturer Part Number: 7447713082; Manufacturer: Wurth Elektronik; DC Resistance: 41 mΩ; DC Resistance Max: 49 mΩ; Inductance: 8.2 μH; Rated Current: 3 A; Saturation Current: 4.7 A; Self Resonant Frequency: 30 MHz; Type: Performance; Category: Power Inductors; Match Code: WE-PD; ComponentLink1Description: Website Link; ComponentLink1URL: https://www.we-online.com/redexpert/article/7447713082?ad; ComponentLink2Description: Datasheet Link; ComponentLink2URL: https://www.we-online.com/redexpert/spec/7447713082?ad; Mount: Surface Mount; Min Operating Temperature: -40 °C; Max Operating Temperature: 150 °C; Packaging: Tape and Reel; Case/Size Code: 1030P; Length: 10 mm; Width: 10 mm; Height: 3 mm
footprint WE-PD_1030P
simulation model 1030_7447713082_8.2u
pins: 1, 2

## 7447713100
designator L?, comment 10 μH, 2.6 A  (value not drawn)
WE-PD SMT Power Inductor, size 1030P, 10 μH, 2.6 A, 62 mΩ; Manufacturer Part Number: 7447713100; Manufacturer: Wurth Elektronik; DC Resistance: 52 mΩ; DC Resistance Max: 62 mΩ; Inductance: 10 μH; Rated Current: 2.6 A; Saturation Current: 4.1 A; Self Resonant Frequency: 25 MHz; Type: Performance; Category: Power Inductors; Match Code: WE-PD; ComponentLink1Description: Website Link; ComponentLink1URL: https://www.we-online.com/redexpert/article/7447713100?ad; ComponentLink2Description: Datasheet Link; ComponentLink2URL: https://www.we-online.com/redexpert/spec/7447713100?ad; Mount: Surface Mount; Min Operating Temperature: -40 °C; Max Operating Temperature: 150 °C; Packaging: Tape and Reel; Case/Size Code: 1030P; Length: 10 mm; Width: 10 mm; Height: 3 mm
footprint WE-PD_1030P
simulation model 1030_7447713100_10u
pins: 1, 2

## 7447713101
designator L?, comment 100 μH, 0.9 A  (value not drawn)
WE-PD SMT Power Inductor, size 1030P, 100 μH, 0.9 A, 478 mΩ; Manufacturer Part Number: 7447713101; Manufacturer: Wurth Elektronik; DC Resistance: 398 mΩ; DC Resistance Max: 478 mΩ; Inductance: 100 μH; Rated Current: 0.9 A; Saturation Current: 1.4 A; Self Resonant Frequency: 7.7 MHz; Type: Performance; Category: Power Inductors; Match Code: WE-PD; ComponentLink1Description: Website Link; ComponentLink1URL: https://www.we-online.com/redexpert/article/7447713101?ad; ComponentLink2Description: Datasheet Link; ComponentLink2URL: https://www.we-online.com/redexpert/spec/7447713101?ad; Mount: Surface Mount; Min Operating Temperature: -40 °C; Max Operating Temperature: 150 °C; Packaging: Tape and Reel; Case/Size Code: 1030P; Length: 10 mm; Width: 10 mm; Height: 3 mm
footprint WE-PD_1030P
simulation model 1030_7447713101_100u
pins: 1, 2

## 7447713102
designator L?, comment 1000 μH, 0.3 A  (value not drawn)
WE-PD SMT Power Inductor, size 1030P, 1000 μH, 0.3 A, 4600 mΩ; Manufacturer Part Number: 7447713102; Manufacturer: Wurth Elektronik; DC Resistance: 4000 mΩ; DC Resistance Max: 4600 mΩ; Inductance: 1000 μH; Rated Current: 0.3 A; Saturation Current: 0.45 A; Self Resonant Frequency: 2.3 MHz; Type: Performance; Category: Power Inductors; Match Code: WE-PD; ComponentLink1Description: Website Link; ComponentLink1URL: https://www.we-online.com/redexpert/article/7447713102?ad; ComponentLink2Description: Datasheet Link; ComponentLink2URL: https://www.we-online.com/redexpert/spec/7447713102?ad; Mount: Surface Mount; Min Operating Temperature: -40 °C; Max Operating Temperature: 150 °C; Packaging: Tape and Reel; Case/Size Code: 1030P; Length: 10 mm; Width: 10 mm; Height: 3 mm
footprint WE-PD_1030P
simulation model 1030_7447713102_1000u
pins: 1, 2

## 7447713121
designator L?, comment 120 μH, 0.85 A  (value not drawn)
WE-PD SMT Power Inductor, size 1030P, 120 μH, 0.85 A, 598 mΩ; Manufacturer Part Number: 7447713121; Manufacturer: Wurth Elektronik; DC Resistance: 498 mΩ; DC Resistance Max: 598 mΩ; Inductance: 120 μH; Rated Current: 0.85 A; Saturation Current: 1.25 A; Self Resonant Frequency: 7 MHz; Type: Performance; Category: Power Inductors; Match Code: WE-PD; ComponentLink1Description: Website Link; ComponentLink1URL: https://www.we-online.com/redexpert/article/7447713121?ad; ComponentLink2Description: Datasheet Link; ComponentLink2URL: https://www.we-online.com/redexpert/spec/7447713121?ad; Mount: Surface Mount; Min Operating Temperature: -40 °C; Max Operating Temperature: 150 °C; Packaging: Tape and Reel; Case/Size Code: 1030P; Length: 10 mm; Width: 10 mm; Height: 3 mm
footprint WE-PD_1030P
simulation model 1030_7447713121_120u
pins: 1, 2

## 7447713150
designator L?, comment 15 μH, 2.2 A  (value not drawn)
WE-PD SMT Power Inductor, size 1030P, 15 μH, 2.2 A, 89 mΩ; Manufacturer Part Number: 7447713150; Manufacturer: Wurth Elektronik; DC Resistance: 74 mΩ; DC Resistance Max: 89 mΩ; Inductance: 15 μH; Rated Current: 2.2 A; Saturation Current: 3.4 A; Self Resonant Frequency: 19.5 MHz; Type: Performance; Category: Power Inductors; Match Code: WE-PD; ComponentLink1Description: Website Link; ComponentLink1URL: https://www.we-online.com/redexpert/article/7447713150?ad; ComponentLink2Description: Datasheet Link; ComponentLink2URL: https://www.we-online.com/redexpert/spec/7447713150?ad; Mount: Surface Mount; Min Operating Temperature: -40 °C; Max Operating Temperature: 150 °C; Packaging: Tape and Reel; Case/Size Code: 1030P; Length: 10 mm; Width: 10 mm; Height: 3 mm
footprint WE-PD_1030P
simulation model 1030_7447713150_15u
pins: 1, 2

## 7447713151
designator L?, comment 150 μH, 0.7 A  (value not drawn)
WE-PD SMT Power Inductor, size 1030P, 150 μH, 0.7 A, 684 mΩ; Manufacturer Part Number: 7447713151; Manufacturer: Wurth Elektronik; DC Resistance: 570 mΩ; DC Resistance Max: 684 mΩ; Inductance: 150 μH; Rated Current: 0.7 A; Saturation Current: 1.1 A; Self Resonant Frequency: 6.1 MHz; Type: Performance; Category: Power Inductors; Match Code: WE-PD; ComponentLink1Description: Website Link; ComponentLink1URL: https://www.we-online.com/redexpert/article/7447713151?ad; ComponentLink2Description: Datasheet Link; ComponentLink2URL: https://www.we-online.com/redexpert/spec/7447713151?ad; Mount: Surface Mount; Min Operating Temperature: -40 °C; Max Operating Temperature: 150 °C; Packaging: Tape and Reel; Case/Size Code: 1030P; Length: 10 mm; Width: 10 mm; Height: 3 mm
footprint WE-PD_1030P
simulation model 1030_7447713151_150u
pins: 1, 2

## 7447713220
designator L?, comment 22 μH, 1.7 A  (value not drawn)
WE-PD SMT Power Inductor, size 1030P, 22 μH, 1.7 A, 133 mΩ; Manufacturer Part Number: 7447713220; Manufacturer: Wurth Elektronik; DC Resistance: 111 mΩ; DC Resistance Max: 133 mΩ; Inductance: 22 μH; Rated Current: 1.7 A; Saturation Current: 2.7 A; Self Resonant Frequency: 17.5 MHz; Type: Performance; Category: Power Inductors; Match Code: WE-PD; ComponentLink1Description: Website Link; ComponentLink1URL: https://www.we-online.com/redexpert/article/7447713220?ad; ComponentLink2Description: Datasheet Link; ComponentLink2URL: https://www.we-online.com/redexpert/spec/7447713220?ad; Mount: Surface Mount; Min Operating Temperature: -40 °C; Max Operating Temperature: 150 °C; Packaging: Tape and Reel; Case/Size Code: 1030P; Length: 10 mm; Width: 10 mm; Height: 3 mm
footprint WE-PD_1030P
simulation model 1030_7447713220_22u
pins: 1, 2

## 7447713330
designator L?, comment 33 μH, 1.35 A  (value not drawn)
WE-PD SMT Power Inductor, size 1030P, 33 μH, 1.35 A, 204 mΩ; Manufacturer Part Number: 7447713330; Manufacturer: Wurth Elektronik; DC Resistance: 170 mΩ; DC Resistance Max: 204 mΩ; Inductance: 33 μH; Rated Current: 1.35 A; Saturation Current: 2.2 A; Self Resonant Frequency: 13 MHz; Type: Performance; Category: Power Inductors; Match Code: WE-PD; ComponentLink1Description: Website Link; ComponentLink1URL: https://www.we-online.com/redexpert/article/7447713330?ad; ComponentLink2Description: Datasheet Link; ComponentLink2URL: https://www.we-online.com/redexpert/spec/7447713330?ad; Mount: Surface Mount; Min Operating Temperature: -40 °C; Max Operating Temperature: 150 °C; Packaging: Tape and Reel; Case/Size Code: 1030P; Length: 10 mm; Width: 10 mm; Height: 3 mm
footprint WE-PD_1030P
simulation model 1030_7447713330_33u
pins: 1, 2

## 7447713331
designator L?, comment 330 μH, 0.48 A  (value not drawn)
WE-PD SMT Power Inductor, size 1030P, 330 μH, 0.48 A, 1500 mΩ; Manufacturer Part Number: 7447713331; Manufacturer: Wurth Elektronik; DC Resistance: 1230 mΩ; DC Resistance Max: 1500 mΩ; Inductance: 330 μH; Rated Current: 0.48 A; Saturation Current: 0.73 A; Self Resonant Frequency: 4.3 MHz; Type: Performance; Category: Power Inductors; Match Code: WE-PD; ComponentLink1Description: Website Link; ComponentLink1URL: https://www.we-online.com/redexpert/article/7447713331?ad; ComponentLink2Description: Datasheet Link; ComponentLink2URL: https://www.we-online.com/redexpert/spec/7447713331?ad; Mount: Surface Mount; Min Operating Temperature: -40 °C; Max Operating Temperature: 150 °C; Packaging: Tape and Reel; Case/Size Code: 1030P; Length: 10 mm; Width: 10 mm; Height: 3 mm
footprint WE-PD_1030P
simulation model 1030_7447713331_330u
pins: 1, 2

## 7447713470
designator L?, comment 47 μH, 1.2 A  (value not drawn)
WE-PD SMT Power Inductor, size 1030P, 47 μH, 1.2 A, 248 mΩ; Manufacturer Part Number: 7447713470; Manufacturer: Wurth Elektronik; DC Resistance: 207 mΩ; DC Resistance Max: 248 mΩ; Inductance: 47 μH; Rated Current: 1.2 A; Saturation Current: 1.9 A; Self Resonant Frequency: 11.4 MHz; Type: Performance; Category: Power Inductors; Match Code: WE-PD; ComponentLink1Description: Website Link; ComponentLink1URL: https://www.we-online.com/redexpert/article/7447713470?ad; ComponentLink2Description: Datasheet Link; ComponentLink2URL: https://www.we-online.com/redexpert/spec/7447713470?ad; Mount: Surface Mount; Min Operating Temperature: -40 °C; Max Operating Temperature: 150 °C; Packaging: Tape and Reel; Case/Size Code: 1030P; Length: 10 mm; Width: 10 mm; Height: 3 mm
footprint WE-PD_1030P
simulation model 1030_7447713470_47u
pins: 1, 2

## 7447713471
designator L?, comment 470 μH, 0.42 A  (value not drawn)
WE-PD SMT Power Inductor, size 1030P, 470 μH, 0.42 A, 2200 mΩ; Manufacturer Part Number: 7447713471; Manufacturer: Wurth Elektronik; DC Resistance: 1850 mΩ; DC Resistance Max: 2200 mΩ; Inductance: 470 μH; Rated Current: 0.42 A; Saturation Current: 0.65 A; Self Resonant Frequency: 3.4 MHz; Type: Performance; Category: Power Inductors; Match Code: WE-PD; ComponentLink1Description: Website Link; ComponentLink1URL: https://www.we-online.com/redexpert/article/7447713471?ad; ComponentLink2Description: Datasheet Link; ComponentLink2URL: https://www.we-online.com/redexpert/spec/7447713471?ad; Mount: Surface Mount; Min Operating Temperature: -40 °C; Max Operating Temperature: 150 °C; Packaging: Tape and Reel; Case/Size Code: 1030P; Length: 10 mm; Width: 10 mm; Height: 3 mm
footprint WE-PD_1030P
simulation model 1030_7447713471_470u
pins: 1, 2